# EAGLE library part TEENSY (library Neel)
Teensy 2.0 Original Design by Clint Fisher Modified Design by Tamir Emran Licensed Under Creative Commons Attribution-ShareAlike 3.0 Unported (CC BY-SA 3.0)
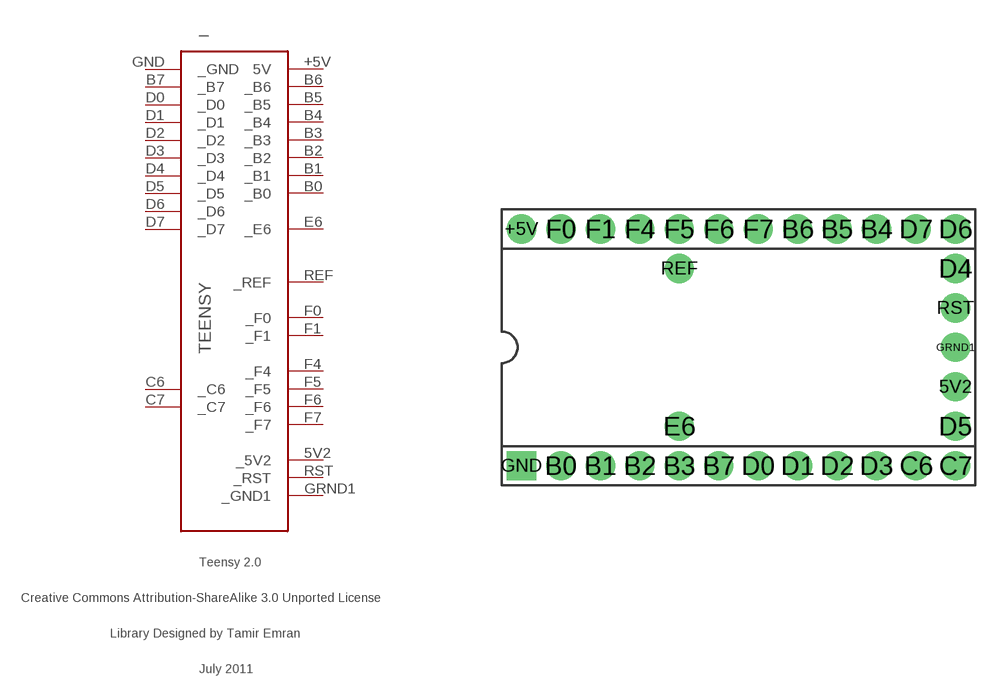
[diagram p72: symbol with the pads of TEENSY; footprint TEENSY]

Designator prefix _

## TEENSY  [TEENSY]
5V2  _5V2
+5V  5V
B0  _B0
B1  _B1
B2  _B2
B3  _B3
B4  _B4
B5  _B5
B6  _B6
B7  _B7
C6  _C6
C7  _C7
D0  _D0
D1  _D1
D2  _D2
D3  _D3
D4  _D4
D5  _D5
D6  _D6
D7  _D7
E6  _E6
F0  _F0
F1  _F1
F4  _F4
F5  _F5
F6  _F6
F7  _F7
GND  _GND
GRND1  _GND1
REF  _REF
RST  _RST

## Footprint TEENSY (pad centres in mm)
drill 1.016 pad 1.88: 5V2 13.97,-2.54; +5V -13.97,7.62; B0 -11.43,-7.62; B1 -8.89,-7.62; B2 -6.35,-7.62; B3 -3.81,-7.62; B4 8.89,7.62; B5 6.35,7.62; B6 3.81,7.62; B7 -1.27,-7.62; C6 11.43,-7.62; C7 13.97,-7.62; D0 1.27,-7.62; D1 3.81,-7.62; D2 6.35,-7.62; D3 8.89,-7.62; D4 13.97,5.08; D5 13.97,-5.08; D6 13.97,7.62; D7 11.43,7.62; E6 -3.81,-5.08; F0 -11.43,7.62; F1 -8.89,7.62; F4 -6.35,7.62; F5 -3.81,7.62; F6 -1.27,7.62; F7 1.27,7.62; GRND1 13.97,0; REF -3.81,5.08; RST 13.97,2.54
drill 1.016 pad 1.88 square: GND -13.97,-7.62